# Altium footprint library udm.PcbLib: 22 footprints (part 2 of 2)
Each footprint in its own frame and in the unit in brackets; x right, y up, seen from the top. Pads: shape width x height; smd on the part's side, far side on the other; paste and mask are expansions set on the pad; w line width, h text height; cw(c..) or ccw(c..) is an arc to the next point about the centre after c.
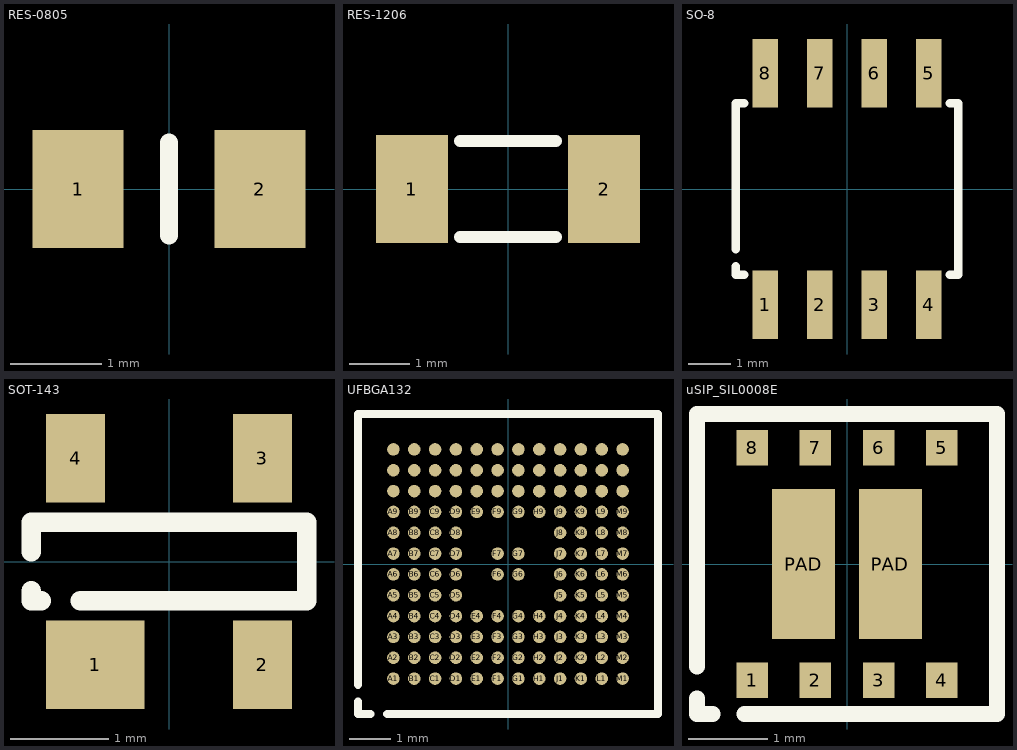
[diagram p1: the footprints below, top view; thin cyan lines are the x and y axes]

## RES-0805 [mm]
pads (2):
  rect 1x1.3 smd: 1(-1,0) 2(1,0)
Top Overlay:
  lines w0.2: 0,-0.508 0,0.508
3D body "User Library-res0805-1.step": height 0.5, standoff 0, extent -1,-0.625 1,0.625

## RES-1206 [mm]
height 1.524
pads (2):
  rect 1.2x1.8 smd: 1(-1.6,0) 2(1.6,0)
Top Overlay:
  lines w0.2: -0.8,-0.8 0.8,-0.8 ; -0.8,0.8 0.8,0.8
3D body "User Library-res1206-1.step": height 0.55, standoff 0, extent -1.6,-0.8 1.6,0.8

## SO-8 [mm] "Стандатный (4.9x6x1.75)."
pads (8):
  rect 0.6x1.6 smd: 1(-1.905,-2.7) 2(-0.635,-2.7) 3(0.635,-2.7) 4(1.905,-2.7) 5(1.905,2.7) 6(0.635,2.7) 7(-0.635,2.7) 8(-1.905,2.7)
Top Overlay:
  lines w0.2: -2.6,-1.8 -2.6,-2 -2.4,-2 ; -2.6,-1.4 -2.6,2 -2.4,2 ; 2.4,-2 2.6,-2 2.6,2 2.4,2
3D body "User Library-so8-3.STEP": height 1.7, standoff 0, extent -2.45,-3 2.45,3

## SOT-143 [mm]
pads (4):
  rect 1x0.9 smd: 1(-0.75,-1.05)
  rect 0.6x0.9 smd: 2(0.95,-1.05) 3(0.95,1.05) 4(-0.95,1.05)
Top Overlay:
  lines w0.2: -1.4,-0.3 -1.4,-0.4 -1.3,-0.4 ; -1.4,0.1 -1.4,0.4 1.4,0.4 1.4,-0.4 -0.9,-0.4
3D body "User Library-sot143.step": height 1, standoff 0, extent -1.46,-1.21 1.46,1.21

## UFBGA132 [mm] "STMicroelectronics"
height 0.6
pads (132):
  round 0.3 smd: A1(-2.75,-2.75) A2(-2.75,-2.25) A3(-2.75,-1.75) A4(-2.75,-1.25) A5(-2.75,-0.75) A6(-2.75,-0.25) A7(-2.75,0.25) A8(-2.75,0.75) A9(-2.75,1.25) A10(-2.75,1.75) A11(-2.75,2.25) A12(-2.75,2.75) B1(-2.25,-2.75) B2(-2.25,-2.25) B3(-2.25,-1.75) B4(-2.25,-1.25) B5(-2.25,-0.75) B6(-2.25,-0.25) B7(-2.25,0.25) B8(-2.25,0.75) B9(-2.25,1.25) B10(-2.25,1.75) B11(-2.25,2.25) B12(-2.25,2.75) C1(-1.75,-2.75) C2(-1.75,-2.25) C3(-1.75,-1.75) C4(-1.75,-1.25) C5(-1.75,-0.75) C6(-1.75,-0.25) C7(-1.75,0.25) C8(-1.75,0.75) C9(-1.75,1.25) C10(-1.75,1.75) C11(-1.75,2.25) C12(-1.75,2.75) D1(-1.25,-2.75) D2(-1.25,-2.25) D3(-1.25,-1.75) D4(-1.25,-1.25) D5(-1.25,-0.75) D6(-1.25,-0.25) D7(-1.25,0.25) D8(-1.25,0.75) D9(-1.25,1.25) D10(-1.25,1.75) D11(-1.25,2.25) D12(-1.25,2.75) E1(-0.75,-2.75) E2(-0.75,-2.25) E3(-0.75,-1.75) E4(-0.75,-1.25) E9(-0.75,1.25) E10(-0.75,1.75) E11(-0.75,2.25) E12(-0.75,2.75) F1(-0.25,-2.75) F2(-0.25,-2.25) F3(-0.25,-1.75) F4(-0.25,-1.25) F6(-0.25,-0.25) F7(-0.25,0.25) F9(-0.25,1.25) F10(-0.25,1.75) F11(-0.25,2.25) F12(-0.25,2.75) G1(0.25,-2.75) G2(0.25,-2.25) G3(0.25,-1.75) G4(0.25,-1.25) G6(0.25,-0.25) G7(0.25,0.25) G9(0.25,1.25) G10(0.25,1.75) G11(0.25,2.25) G12(0.25,2.75) H1(0.75,-2.75) H2(0.75,-2.25) H3(0.75,-1.75) H4(0.75,-1.25) H9(0.75,1.25) H10(0.75,1.75) H11(0.75,2.25) H12(0.75,2.75) J1(1.25,-2.75) J2(1.25,-2.25) J3(1.25,-1.75) J4(1.25,-1.25) J5(1.25,-0.75) J6(1.25,-0.25) J7(1.25,0.25) J8(1.25,0.75) J9(1.25,1.25) J10(1.25,1.75) J11(1.25,2.25) J12(1.25,2.75) K1(1.75,-2.75) K2(1.75,-2.25) K3(1.75,-1.75) K4(1.75,-1.25) K5(1.75,-0.75) K6(1.75,-0.25) K7(1.75,0.25) K8(1.75,0.75) K9(1.75,1.25) K10(1.75,1.75) K11(1.75,2.25) K12(1.75,2.75) L1(2.25,-2.75) L2(2.25,-2.25) L3(2.25,-1.75) L4(2.25,-1.25) L5(2.25,-0.75) L6(2.25,-0.25) L7(2.25,0.25) L8(2.25,0.75) L9(2.25,1.25) L10(2.25,1.75) L11(2.25,2.25) L12(2.25,2.75) M1(2.75,-2.75) M2(2.75,-2.25) M3(2.75,-1.75) M4(2.75,-1.25) M5(2.75,-0.75) M6(2.75,-0.25) M7(2.75,0.25) M8(2.75,0.75) M9(2.75,1.25) M10(2.75,1.75) M11(2.75,2.25) M12(2.75,2.75)
Top Overlay:
  lines w0.2: -3.6,-3.3 -3.6,-3.6 -3.3,-3.6 ; -3.6,-2.9 -3.6,3.6 3.6,3.6 3.6,-3.6 -2.9,-3.6
3D body "ufbga132.stp": height 0.6, standoff 0, extent -3.5,-3.5 3.5,3.5

## uSIP_SIL0008E [mm]
pads (10):
  rect 0.4x0.45 smd: 1(-1.2,-1.475) 2(-0.4,-1.475) 3(0.4,-1.475) 4(1.2,-1.475) 5(1.2,1.475) 6(0.4,1.475) 7(-0.4,1.475) 8(-1.2,1.475)
  rect 0.8x1.9 smd: PAD(-0.55,0) PAD(0.55,0)
Top Overlay:
  lines w0.2: -1.9,-1.7 -1.9,-1.9 -1.7,-1.9 ; -1.9,-1.3 -1.9,1.9 1.9,1.9 1.9,-1.9 -1.3,-1.9
3D body "SIL0008E.stp": height 1.66, standoff 0, extent -1.75,-1.75 1.75,1.75